# EAGLE library part CSD18532Q5B_DNK_8 (library power_module)
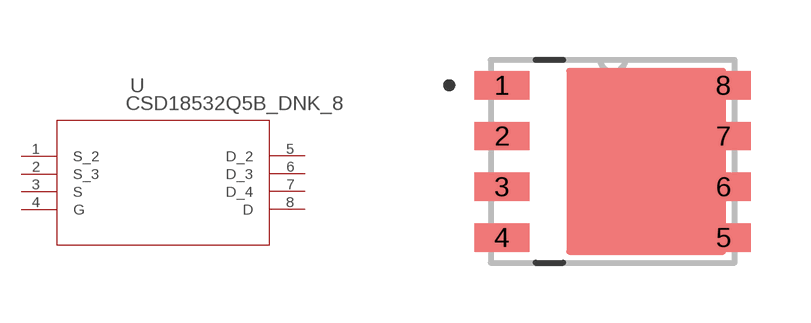
[diagram p6: symbol with the pads of DNK8; footprint DNK8]

Designator prefix U

## CSD18532Q5B_DNK_8 (MANUFACTURER_PART_NUMBER: csd18532q5b_dnk_8; VENDOR: TEXAS INSTRUMENTS)  [DNK8]
1  S_2  pas
2  S_3  pas
3  S  pas
4  G  pas
5  D_2  pas
6  D_3  pas
7  D_4  pas
8  D  pas

## Footprint DNK8 (pad centres in mm)
smd 1.372 x 0.71: 1 -2.77,1.905; 2 -2.77,0.635; 3 -2.77,-0.635; 4 -2.77,-1.905; 5 2.77,-1.905; 6 2.77,-0.635; 7 2.77,0.635; 8 2.77,1.905